# EAGLE library part SPLATCH (library LINX)
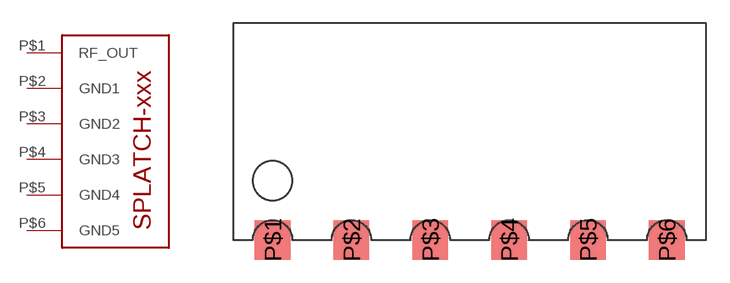
[diagram p3: symbol with the pads of SPLATCH; footprint SPLATCH]

Designator prefix -

## SPLATCH  [SPLATCH]
P$1  RF_OUT  out
P$2  GND1  pwr
P$3  GND2  pwr
P$4  GND3  pwr
P$5  GND4  pwr
P$6  GND5  pwr

## Footprint SPLATCH (pad centres in mm)
smd 2.286 x 2.54: P$1 0,0; P$2 5.08,0; P$3 10.16,0; P$4 15.24,0; P$5 20.32,0; P$6 25.4,0